# EAGLE library part 61301015721 (library Board-to-Board (rev18a))
WR-PHD 2.54mm Socket Header Bottom Entry, 10 Pins =>Code : Con_BTB_SHD_2.54_1_THT_61301015721 <http://katalog.we-online.de/media/images/eican/Con_BTB_SHD_2.54_1_THT_6130xx15721_pf2.jpg> Details see: http://katalog.we-online.de/en/em/613_0xx_157_21 Created 2014-05-30, Karrer Zheng 2014 (C) Würth Elektronik
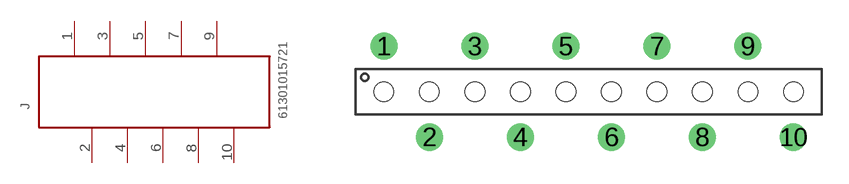
[diagram p150: symbol with the pads of 61301015721; footprint 61301015721]

Designator prefix J

## 61301015721  [61301015721]
1  10  pas
2  9  pas
3  8  pas
4  7  pas
5  6  pas
6  5  pas
7  4  pas
8  3  pas
9  2  pas
10  1  pas

## Footprint 61301015721 (pad centres in mm)
WR-PHD 2.54mm Socket Header Bottom Entry, 10 Pins
drill 1: 1 -11.43,2.54; 2 -8.89,-2.54; 3 -6.35,2.54; 4 -3.81,-2.54; 5 -1.27,2.54; 6 1.27,-2.54; 7 3.81,2.54; 8 6.35,-2.54; 9 8.89,2.54; 10 11.43,-2.54
hole 1.1 at -11.43,0
hole 1.1 at -8.89,0
hole 1.1 at -6.35,0
hole 1.1 at -3.81,0
hole 1.1 at -1.27,0
hole 1.1 at 1.27,0
hole 1.1 at 3.81,0
hole 1.1 at 6.35,0
hole 1.1 at 8.89,0
hole 1.1 at 11.43,0